# EAGLE library part FTSH-105-XX-X- (library samtec)
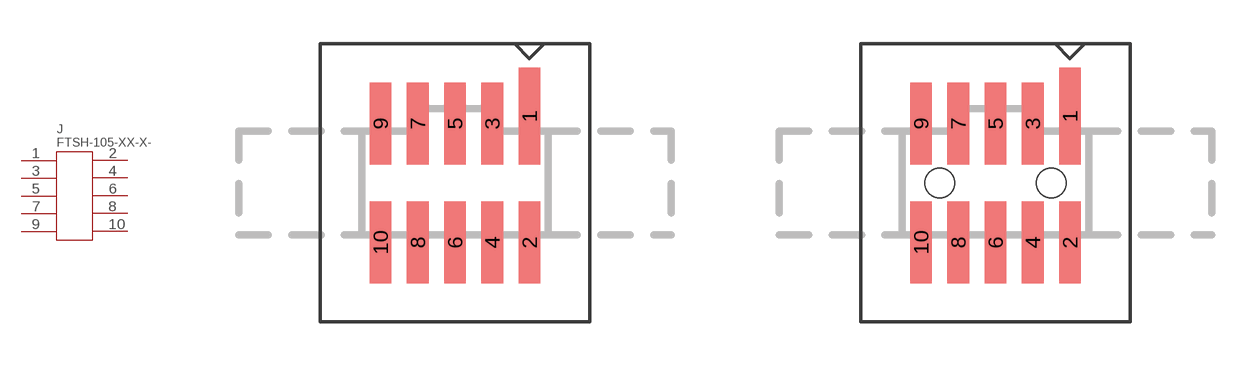
[diagram p0: symbol with the pads of FTSH-105-01-XXX-DV-K; footprints FTSH-105-01-XXX-DV-K, FTSH-105-01-XXX-DV-K-A]

Designator prefix J

## FTSH-105-XX-X-DV  [FTSH-105-01-XXX-DV-K]
1  1  pas
2  2  pas
3  3  pas
4  4  pas
5  5  pas
6  6  pas
7  7  pas
8  8  pas
9  9  pas
10  10  pas

## FTSH-105-XX-X-DV-A  [FTSH-105-01-XXX-DV-K-A]
Pads as for FTSH-105-01-XXX-DV-K

## FTSH-105-XX-X-DH  [FTSH-105-XX-XXX-DH]
Pads as for FTSH-105-01-XXX-DV-K

## Footprint FTSH-105-01-XXX-DV-K (pad centres in mm)
TERMINAL STRIP, .050 inch(1.27mm) PITCH, 10 PINS, KEYED
smd 0.737 x 3.302: 1 2.54,2.286
smd 0.737 x 2.794: 2 2.54,-2.032; 3 1.27,2.032; 4 1.27,-2.032; 5 0,2.032; 6 0,-2.032; 7 -1.27,2.032; 8 -1.27,-2.032; 9 -2.54,2.032; 10 -2.54,-2.032

## Footprint FTSH-105-01-XXX-DV-K-A (pad centres in mm)
smd 0.737 x 3.302: 1 2.54,2.286
smd 0.737 x 2.794: 2 2.54,-2.032; 3 1.27,2.032; 4 1.27,-2.032; 5 0,2.032; 6 0,-2.032; 7 -1.27,2.032; 8 -1.27,-2.032; 9 -2.54,2.032; 10 -2.54,-2.032
hole 1 at 1.905,0
hole 1 at -1.905,0

## Footprint FTSH-105-XX-XXX-DH (pad centres in mm)
smd 0.762 x 2.032: 1 2.54,-2.794; 2 2.54,-5.842; 3 1.27,-2.794; 4 1.27,-5.842; 5 0,-2.794; 6 0,-5.842; 7 -1.27,-2.794; 8 -1.27,-5.842; 9 -2.54,-2.794; 10 -2.54,-5.842